# EAGLE library part MKDS-08 (library con-phoenix-500)
MKDSN COMBICON SERIES
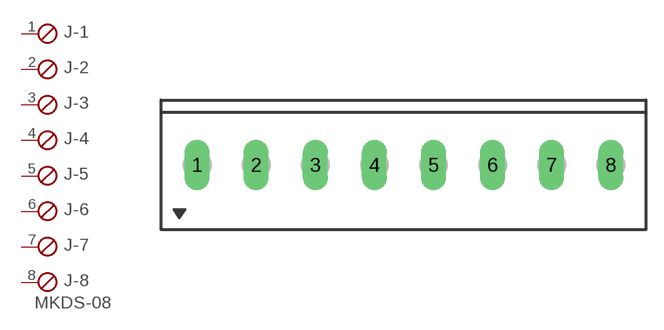
[diagram p14: symbol with the pads of MKDS-08; footprint MKDS-08]

Designator prefix J; gates -1=SKB -2=SKB -3=SKB -4=SKB -5=SKB -6=SKB -7=SKB -8=SKBV

## MKDS-08  [MKDS-08]
1  -1:1  pas
2  -2:1  pas
3  -3:1  pas
4  -4:1  pas
5  -5:1  pas
6  -6:1  pas
7  -7:1  pas
8  -8:1  pas

## Footprint MKDS-08 (pad centres in mm)
5.00 mm
drill 1.422 long: 1 -17.46,0; 2 -12.46,0; 3 -7.46,0; 4 -2.46,0; 5 2.54,0; 6 7.54,0; 7 12.54,0; 8 17.54,0